# EAGLE library part CPU89CX051 (library atmel_tiny24-44-84tiny48-88mega48-88-168-328)
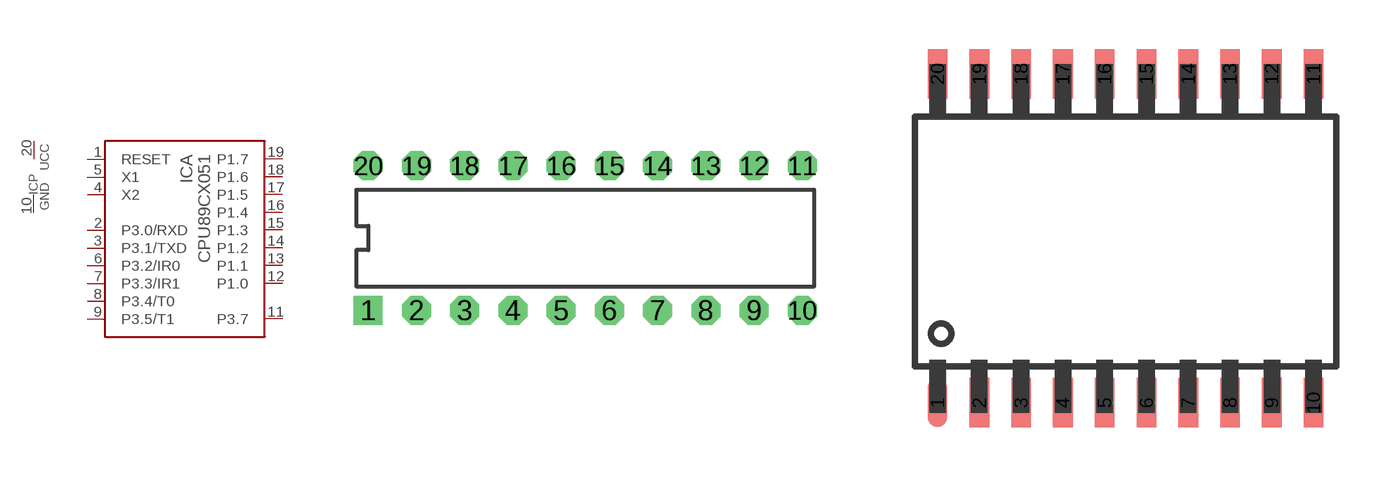
[diagram p0: symbol with the pads of DIL20; footprints DIL20, SOIC20S]

Designator prefix IC; gates A=CPU89CX051 P=!UCC+GND

## CPU89CX051DIL  [DIL20]
1  A:RESET  in
2  A:P3.0/RXD
3  A:P3.1/TXD
4  A:X2  out
5  A:X1  in
6  A:P3.2/IR0
7  A:P3.3/IR1
8  A:P3.4/T0
9  A:P3.5/T1
10  P:GND  pwr
11  A:P3.7
12  A:P1.0
13  A:P1.1
14  A:P1.2
15  A:P1.3
16  A:P1.4
17  A:P1.5
18  A:P1.6
19  A:P1.7
20  P:UCC  pwr

## CPU89CX051SMD  [SOIC20S]
Pads as for DIL20

## Footprint DIL20 (pad centres in mm)
drill 0.889 pad 1.524 square: 1 -11.43,-3.81
drill 0.889 pad 1.524 octagon: 2 -8.89,-3.81; 3 -6.35,-3.81; 4 -3.81,-3.81; 5 -1.27,-3.81; 6 1.27,-3.81; 7 3.81,-3.81; 8 6.35,-3.81; 9 8.89,-3.81; 10 11.43,-3.81; 11 11.43,3.81; 12 8.89,3.81; 13 6.35,3.81; 14 3.81,3.81; 15 1.27,3.81; 16 -1.27,3.81; 17 -3.81,3.81; 18 -6.35,3.81; 19 -8.89,3.81; 20 -11.43,3.81

## Footprint SOIC20S (pad centres in mm)
Wide Plastic Gull Wing Small Outline Package
smd 0.6 x 1.5: 1 -5.715,-5; 2 -4.445,-5; 3 -3.175,-5; 4 -1.905,-5; 5 -0.635,-5; 6 0.635,-5; 7 1.905,-5; 8 3.175,-5; 9 4.445,-5; 10 5.715,-5; 11 5.715,5; 12 4.445,5; 13 3.175,5; 14 1.905,5; 15 0.635,5; 16 -0.635,5; 17 -1.905,5; 18 -3.175,5; 19 -4.445,5; 20 -5.715,5